# EAGLE library part AXE610124 (library Connector_Panasonic)
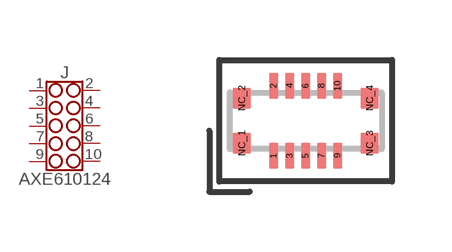
[diagram p1: symbol with the pads of AXE610124; footprint AXE610124]

Designator prefix J

## AXE610124  [AXE610124]
1  1  pas
2  2  pas
3  3  pas
4  4  pas
5  5  pas
6  6  pas
7  7  pas
8  8  pas
9  9  pas
10  10  pas

## Footprint AXE610124 (pad centres in mm)
smd 0.23 x 0.65: 1 -0.8,-0.875; 2 -0.8,0.875; 3 -0.4,-0.875; 4 -0.4,0.875; 5 0,-0.875; 6 0,0.875; 7 0.4,-0.875; 8 0.4,0.875; 9 0.8,-0.875; 10 0.8,0.875
smd 0.45 x 0.53: NC_1 -1.6,-0.565; NC_2 -1.6,0.565; NC_3 1.6,-0.565; NC_4 1.6,0.565